# Altium footprint library FC_v2.0_PcbLib.PcbLib: 28 footprints (part 1 of 2)
Each footprint in its own frame and in the unit in brackets; x right, y up, seen from the top. Pads: shape width x height; smd on the part's side, far side on the other; paste and mask are expansions set on the pad; w line width, h text height; cw(c..) or ccw(c..) is an arc to the next point about the centre after c.
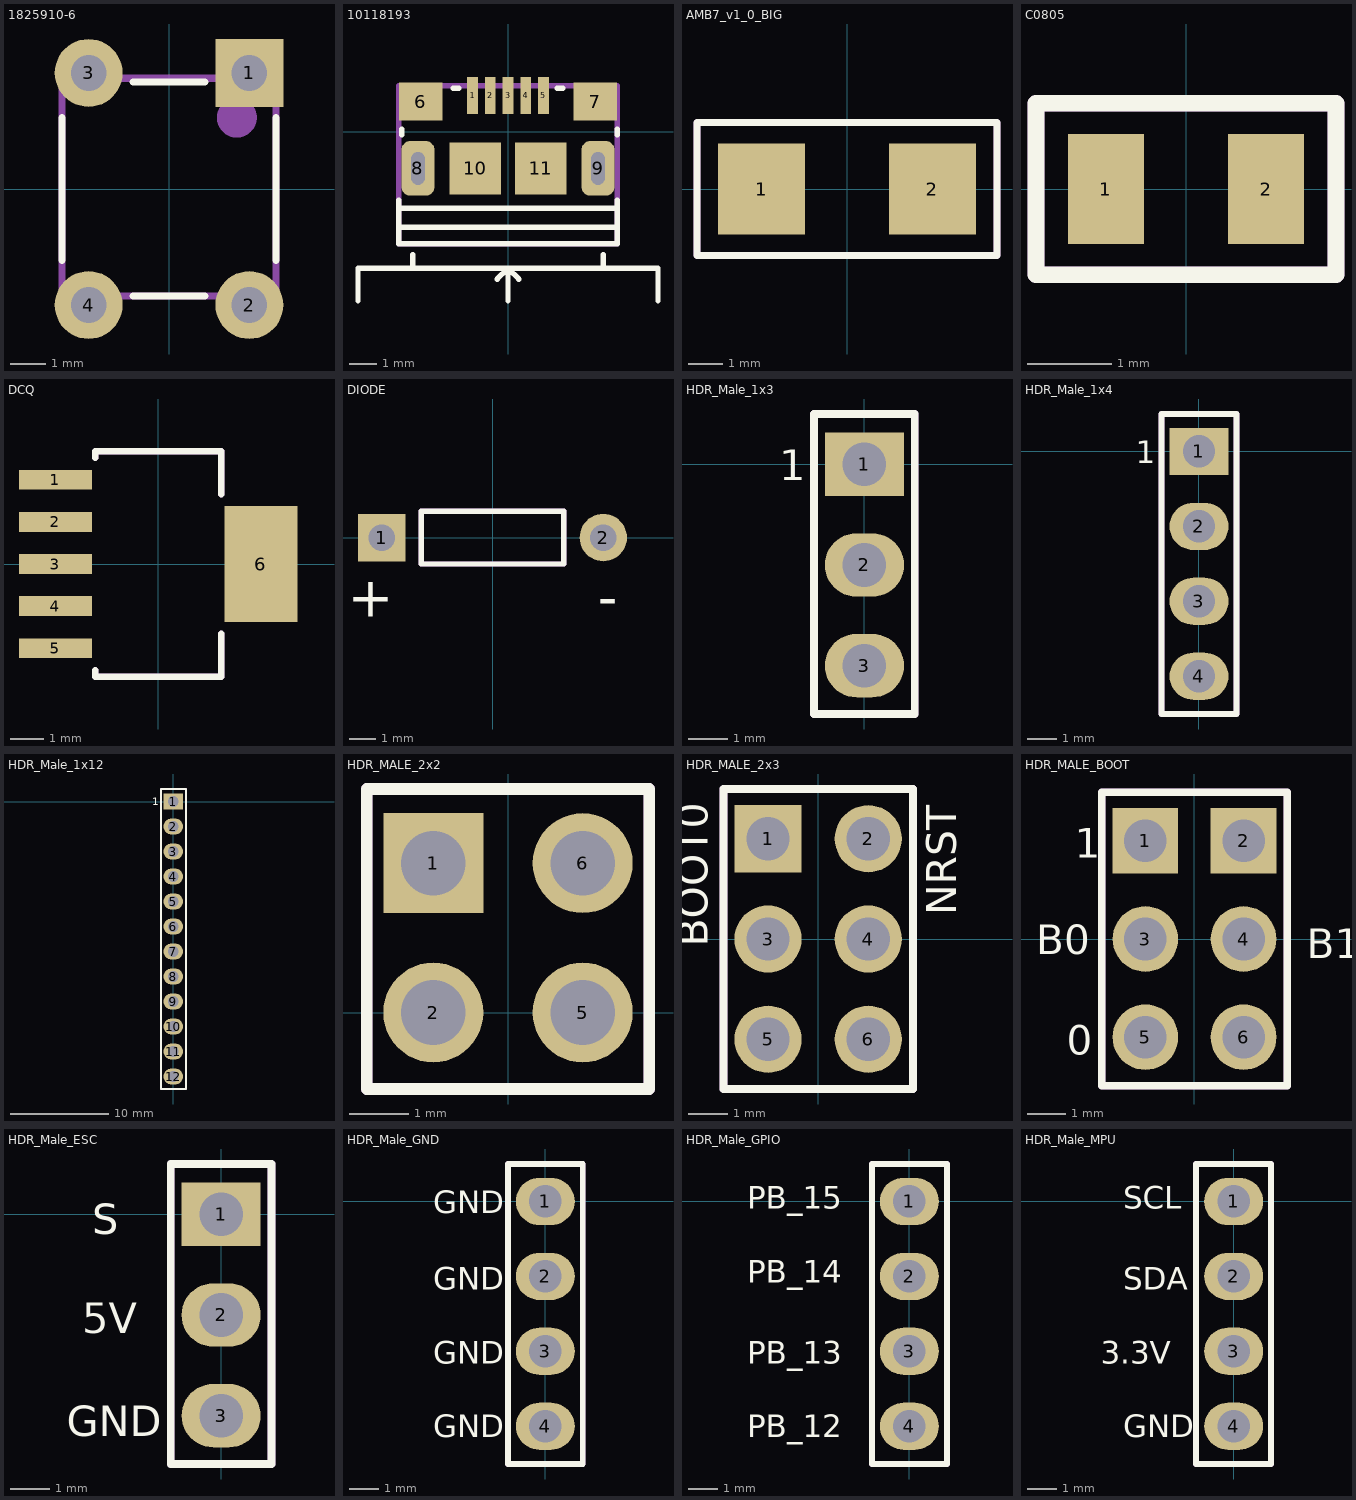
[diagram p0: the footprints below, top view; thin cyan lines are the x and y axes]

## 1825910-6 [mm]
pads (4):
  rect 1.9x1.9 hole 1: 1(2.25,3.25)
  round 1.9 hole 1: 2(2.25,-3.25) 3(-2.25,3.25) 4(-2.25,-3.25)
Top Overlay:
  lines w0.2: -3,-2 -3,0 -3,2 ; -1,-3 0,-3 1,-3 ; -1,3 0,3 1,3 ; 3,-2 3,0 3,2
Mechanical 1:
  circle w0.762: c1.9,2 r0.178
  lines w0.2: -3,-3 3,-3 3,3.1 -3,3.1 -3,-3
Mechanical 29:
  text "'.Designator'" at -1,-0.7 h1.52
3D body "FSM4JLH(1825910-5).STEP": height 5, standoff -3.51, extent -2.99,-3.899 3,3.899

## 10118193 [mm]
pads (11):
  rect 0.4x1.35 smd mask+0.05: 1(-1.3,1.338) 2(-0.65,1.338) 3(0,1.338) 4(0.65,1.338) 5(1.3,1.338)
  rect 1.6x1.4 smd: 6(-3.2,1.112) 7(3.2,1.112)
  rrect50% 1.2x2 hole 0.5 slot 1.2 at 90 deg: 8(-3.3,-1.338) 9(3.3,-1.338)
  rect 1.9x1.9 smd: 10(-1.2,-1.338) 11(1.2,-1.338)
Top Overlay:
  lines w0.2: -5.5,-6.2 -5.5,-5 5.5,-5 5.5,-6.2 ; -4,-3.5 4,-3.5 ; -4,-2.8 4,-2.8 ; -4,-2.5 -4,-4.1 4,-4.1 4,-2.5 ; -3.9,-0.1 -3.9,0.1 ; -3.5,-5 -3.5,-4.5 ; -2,1.6 -1.8,1.6 ; -0.4,-5.4 0,-5 ; 0,-6.2 0,-5 ; 0.4,-5.4 0,-5 ; 1.8,1.6 2,1.6 ; 3.5,-5 3.5,-4.5 ; 4,-0.1 4,0.1
Mechanical 29:
  lines w0.2: -4,-4.1 -4,1.7 4,1.7 4,-4.1 -4,-4.1
  text "'.Designator'" at -3.4,-1.8 h0.76
3D body "10118193-0001lfc.stp": height 2.81, standoff -0.79, extent -3.928,-4.063 3.928,1.598

## AMB7_v1_0_BIG [mm]
pads (2):
  rect 2.5x2.6 smd: 1(-2.45,0) 2(2.45,0)
Top Overlay:
  lines w0.2: -4.3,-1.9 4.3,-1.9 4.3,1.9 -4.3,1.9 -4.3,-1.9
Mechanical 29:
  lines w0.2: -4.3,-1.9 4.3,-1.9 4.3,1.9 -4.3,1.9 -4.3,-1.9
  text "'.Designator'" at 3.8,-0.4 h0.76
3D body "ABM7.STEP": height 1.41, standoff 0.01, extent -2.997,-1.753 2.997,1.753

## C0805 [mm]
pads (2):
  rect 0.9x1.3 smd: 1(-0.95,0) 2(0.95,0)
Top Overlay:
  lines w0.2: -1.778,-1.016 1.778,-1.016 1.778,1.016 -1.778,1.016 -1.778,-1.016
Mechanical 29:
  lines w0.2: -1.778,-1.016 -1.778,1.016 1.778,1.016 1.778,-1.016 -1.778,-1.016
  text "'.Designator'" at 0.762,-0.508 h0.76
3D body "User Library-Chip Capacitor2CAPC2012X95N.STEP": height 0.81, standoff 0.01, extent -0.8,-0.432 0.8,0.428

## DCQ [mm]
pads (6):
  rect 2.2x0.6 smd: 1(-3.1,2.54) 2(-3.1,1.27) 3(-3.1,0) 4(-3.1,-1.27) 5(-3.1,-2.54)
  rect 2.2x3.5 smd: 6(3.1,0)
Top Overlay:
  lines w0.2: -1.9,-3.2 -1.9,-3.4 1.9,-3.4 1.9,-2.1 ; -1.9,3.2 -1.9,3.4 1.9,3.4 1.9,2.1
Mechanical 29:
  lines w0.2: -1.9,-3.2 -1.9,-3.4 1.9,-3.4 1.9,-2.1 ; -1.9,3.2 -1.9,3.4 1.9,3.4 1.9,2.1
  text "'.Designator'" at -1.1,0.3 h0.76
3D body "TPS73701DCQ.STEP": height 1.71, standoff -0.09, extent -3.63,-3.275 3.63,3.275

## DIODE [mm]
pads (2):
  rect 1.8x1.8 hole 1: 1(-4.2,0)
  round 1.8 hole 1: 2(4.2,0)
Top Overlay:
  lines w0.2: -2.7,-1 -2.7,1 0,1 2.7,1 2.7,-1 0,-1 -2.7,-1
  text "-" at 4.75,-3 h1.52
  text "+" at -3.75,-3 h1.52
Mechanical 29:
  lines w0.2: -2.7,-1 -2.7,1 2.7,1 2.7,-1 -2.7,-1
  text "'.Designator'" at -0.6,-0.3 h0.76

## HDR_Male_1x3 [mm]
pads (3):
  rect 2x1.6 hole 1.1: 1(0,0)
  oval 2x1.6 hole 1.1: 2(0,-2.54) 3(0,-5.08)
Top Overlay:
  lines w0.2: -1.27,-6.3 -1.27,1.27 1.27,1.27 1.27,-6.3 -1.27,-6.3
  text "1" at -2.15,-0.4 h0.76
Mechanical 29:
  lines w0.2: -1.27,-6.3 -1.27,1.27 1.27,1.27 1.27,-6.3 -1.27,-6.3
  text "'.Designator'" at 0.3,-3.5 h0.76
3D body "Header_Male_RA_Low_1Pin.STEP": height 4.14, standoff -5.99, extent -1.257,-1.24 4.257,1.3
3D body "Header_Male_RA_Low_1Pin.STEP": height 4.14, standoff -5.99, extent -1.215,-6.37 4.3,-3.83
3D body "Header_Male_RA_Low_1Pin.STEP": height 4.14, standoff -5.99, extent -1.215,-3.77 4.3,-1.23

## HDR_Male_1x4 [mm]
pads (4):
  rect 2x1.6 hole 1.1: 1(0,0)
  oval 2x1.6 hole 1.1: 2(0,-2.54) 3(0,-5.08) 4(0,-7.62)
Top Overlay:
  lines w0.2: -1.27,-8.9 -1.27,1.27 1.27,1.27 1.27,-8.9 -1.27,-8.9
  text "1" at -2.15,-0.4 h0.76
Mechanical 29:
  lines w0.2: -1.27,-8.9 -1.27,1.27 1.27,1.27 1.27,-8.9 -1.27,-8.9
  text "'.Designator'" at 0.3,-4.2 h0.76
3D body "Header_Male_RA_Low_1Pin.STEP": height 4.14, standoff -5.99, extent -1.215,-1.27 4.3,1.27
3D body "Header_Male_RA_Low_1Pin.STEP": height 4.14, standoff -5.99, extent -1.257,-8.94 4.257,-6.4
3D body "Header_Male_RA_Low_1Pin.STEP": height 4.14, standoff -5.99, extent -1.215,-3.77 4.3,-1.23
3D body "Header_Male_RA_Low_1Pin.STEP": height 4.14, standoff -5.99, extent -1.215,-6.37 4.3,-3.83

## HDR_Male_1x12 [mm]
pads (12):
  rect 2x1.6 hole 1.1: 1(0,0)
  oval 2x1.6 hole 1.1: 2(0,-2.54) 3(0,-5.08) 4(0,-7.62) 5(0,-10.16) 6(0,-12.7) 7(0,-15.24) 8(0,-17.78) 9(0,-20.32) 10(0,-22.86) 11(0,-25.4) 12(0,-27.94)
Top Overlay:
  lines w0.2: -1.27,-29.21 1.27,-29.21 1.27,1.27 -1.27,1.27 -1.27,-29.21
  text "1" at -2.15,-0.4 h0.76
Mechanical 29:
  lines w0.2: -1.27,-29.21 1.27,-29.21 1.27,1.27 -1.27,1.27 -1.27,-29.21
  text "'.Designator'" at 0.254,-17.78 h0.76
3D body "HDR_1x4_White.stp": height 5.47, standoff -6.03, extent -1.2,-8.705 1.21,1.055
3D body "HDR_1x4_White.stp": height 5.47, standoff -6.03, extent -1.2,-18.905 1.21,-9.145
3D body "HDR_1x4_White.stp": height 5.47, standoff -6.03, extent -1.205,-29.064 1.205,-19.304

## HDR_MALE_2x2 [mm]
pads (4):
  rect 1.7x1.7 hole 1.1: 1(-1.27,2.54)
  round 1.7 hole 1.1: 2(-1.27,0) 5(1.27,0) 6(1.27,2.54)
Top Overlay:
  lines w0.2: -2.4,-1.3 -2.4,3.8 2.4,3.8 2.4,-1.3 -2.4,-1.3
Mechanical 29:
  circle w0.5: c-1.6,2.9 r0.224
  lines w0.2: -2.4,-1.3 -2.4,3.8 2.4,3.8 2.4,-1.3 -2.4,-1.3
  text "'.Designator'" at 0.6,1.5 h1.52
3D body "Header_Male_1Pin.STEP": height 8.54, standoff -3, extent 0,1.3 2.54,3.79
3D body "Header_Male_1Pin.STEP": height 8.54, standoff -3, extent 0.03,-1.245 2.57,1.245
3D body "Header_Male_1Pin.STEP": height 8.54, standoff -3, extent -2.57,1.31 -0.03,3.8
3D body "Header_Male_1Pin.STEP": height 8.54, standoff -3, extent -2.5,-1.245 0.04,1.245

## HDR_MALE_2x3 [mm]
pads (6):
  rect 1.7x1.7 hole 1.1: 1(-1.27,2.54)
  round 1.7 hole 1.1: 2(1.27,2.54) 3(-1.27,0) 4(1.27,0) 5(-1.27,-2.54) 6(1.27,-2.54)
Top Overlay:
  lines w0.2: -2.4,-3.8 -2.4,3.8 2.4,3.8 2.4,-3.8 -2.4,-3.8
  text "NRST" at 3.5,0.6 h0.76
  text "BOOT0" at -2.8,-0.2 h0.76
Mechanical 29:
  circle w0.5: c-1.6,2.9 r0.224
  lines w0.2: -2.4,-3.8 -2.4,3.8 2.4,3.8 2.4,-3.8 -2.4,-3.8
  text "'.Designator'" at 0.6,1.5 h1.52
3D body "Header_Male_1Pin.STEP": height 8.54, standoff -3, extent 0,1.3 2.54,3.79
3D body "Header_Male_1Pin.STEP": height 8.54, standoff -3, extent 0.03,-1.245 2.57,1.245
3D body "Header_Male_1Pin.STEP": height 8.54, standoff -3, extent -2.57,1.31 -0.03,3.8
3D body "Header_Male_1Pin.STEP": height 8.54, standoff -3, extent -2.5,-1.245 0.04,1.245
3D body "Header_Male_1Pin.STEP": height 8.54, standoff -3, extent -2.47,-3.745 0.07,-1.255
3D body "Header_Male_1Pin.STEP": height 8.54, standoff -3, extent 0.03,-3.745 2.57,-1.255

## HDR_MALE_BOOT [mm]
pads (6):
  rect 1.7x1.7 hole 1.1: 1(-1.27,2.54) 2(1.27,2.54)
  round 1.7 hole 1.1: 3(-1.27,0) 4(1.27,0) 5(-1.27,-2.54) 6(1.27,-2.54)
Top Overlay:
  lines w0.2: -2.4,-3.8 -2.4,3.8 2.4,3.8 2.4,-3.8 -2.4,-3.8
  text "0" at -3.3,-3 h0.76
  text "1" at -3.1,2.1 h0.76
  text "B1" at 2.9,-0.5 h0.76
  text "B0" at -4.1,-0.4 h0.76
Mechanical 29:
  circle w0.5: c-1.6,2.9 r0.224
  lines w0.2: -2.4,-3.8 -2.4,3.8 2.4,3.8 2.4,-3.8 -2.4,-3.8
  text "'.Designator'" at 0.6,1.5 h1.52
3D body "Header_Male_1Pin.STEP": height 8.54, standoff -3, extent 0,1.3 2.54,3.79
3D body "Header_Male_1Pin.STEP": height 8.54, standoff -3, extent 0.03,-1.245 2.57,1.245
3D body "Header_Male_1Pin.STEP": height 8.54, standoff -3, extent -2.57,1.31 -0.03,3.8
3D body "Header_Male_1Pin.STEP": height 8.54, standoff -3, extent -2.5,-1.245 0.04,1.245
3D body "Header_Male_1Pin.STEP": height 8.54, standoff -3, extent -2.47,-3.745 0.07,-1.255
3D body "Header_Male_1Pin.STEP": height 8.54, standoff -3, extent 0.03,-3.745 2.57,-1.255

## HDR_Male_ESC [mm]
pads (3):
  rect 2x1.6 hole 1.1: 1(0,0)
  oval 2x1.6 hole 1.1: 2(0,-2.54) 3(0,-5.08)
Top Overlay:
  lines w0.2: -1.27,-6.3 -1.27,1.27 1.27,1.27 1.27,-6.3 -1.27,-6.3
  text "S" at -3.25,-0.5 h0.76
  text "5V" at -3.5,-3 h0.76
  text "GND" at -3.9,-5.6 h0.76
Mechanical 29:
  lines w0.2: -1.27,-6.3 -1.27,1.27 1.27,1.27 1.27,-6.3 -1.27,-6.3
  text "'.Designator'" at 0.3,-3.5 h0.76
3D body "Header_Male_RA_Low_1Pin.STEP": height 4.14, standoff -5.99, extent -1.257,-1.24 4.257,1.3
3D body "Header_Male_RA_Low_1Pin.STEP": height 4.14, standoff -5.99, extent -1.215,-6.37 4.3,-3.83
3D body "Header_Male_RA_Low_1Pin.STEP": height 4.14, standoff -5.99, extent -1.215,-3.77 4.3,-1.23

## HDR_Male_GND [mm]
pads (4):
  oval 2x1.6 hole 1.1: 1(0,0) 2(0,-2.54) 3(0,-5.08) 4(0,-7.62)
Top Overlay:
  lines w0.2: -1.27,-8.9 -1.27,1.27 1.27,1.27 1.27,-8.9 -1.27,-8.9
  text "GND" at -3.8,-0.4 h0.76
  text "GND" at -3.8,-3 h0.76
  text "GND" at -3.8,-5.5 h0.76
  text "GND" at -3.8,-8 h0.76
Mechanical 29:
  lines w0.2: -1.27,-8.9 -1.27,1.27 1.27,1.27 1.27,-8.9 -1.27,-8.9
  text "'.Designator'" at 0.3,-4.2 h0.76
3D body "Header_Male_RA_Low_1Pin.STEP": height 4.14, standoff -5.99, extent -1.215,-1.27 4.3,1.27
3D body "Header_Male_RA_Low_1Pin.STEP": height 4.14, standoff -5.99, extent -1.257,-8.94 4.257,-6.4
3D body "Header_Male_RA_Low_1Pin.STEP": height 4.14, standoff -5.99, extent -1.215,-3.77 4.3,-1.23
3D body "Header_Male_RA_Low_1Pin.STEP": height 4.14, standoff -5.99, extent -1.215,-6.37 4.3,-3.83

## HDR_Male_GPIO [mm]
pads (4):
  oval 2x1.6 hole 1.1: 1(0,0) 2(0,-2.54) 3(0,-5.08) 4(0,-7.62)
Top Overlay:
  lines w0.2: -1.27,-8.9 1.27,-8.9 1.27,1.27 -1.27,1.27 -1.27,-8.9
  text "PB_12" at -5.5,-8 h0.76
  text "PB_13" at -5.5,-5.5 h0.76
  text "PB_14" at -5.5,-2.75 h0.76
  text "PB_15" at -5.5,-0.25 h0.76
Mechanical 29:
  lines w0.2: -1.27,-8.9 1.27,-8.9 1.27,1.27 -1.27,1.27 -1.27,-8.9
  text "'.Designator'" at 0.3,-4.2 h0.76
3D body "Header_Male_RA_Low_1Pin.STEP": height 4.14, standoff -5.99, extent -1.215,-6.37 4.3,-3.83
3D body "Header_Male_RA_Low_1Pin.STEP": height 4.14, standoff -5.99, extent -1.215,-3.77 4.3,-1.23
3D body "Header_Male_RA_Low_1Pin.STEP": height 4.14, standoff -5.99, extent -1.257,-8.94 4.257,-6.4
3D body "Header_Male_RA_Low_1Pin.STEP": height 4.14, standoff -5.99, extent -1.215,-1.27 4.3,1.27

## HDR_Male_MPU [mm]
pads (4):
  oval 2x1.6 hole 1.1: 1(0,0) 2(0,-2.54) 3(0,-5.08) 4(0,-7.62)
Top Overlay:
  lines w0.2: -1.27,-8.9 -1.27,1.27 1.27,1.27 1.27,-8.9 -1.27,-8.9
  text "GND" at -3.75,-8 h0.76
  text "3.3V" at -4.5,-5.5 h0.76
  text "SDA" at -3.75,-3 h0.76
  text "SCL" at -3.75,-0.25 h0.76
Mechanical 29:
  lines w0.2: -1.27,-8.9 -1.27,1.27 1.27,1.27 1.27,-8.9 -1.27,-8.9
  text "'.Designator'" at 0.3,-4.2 h0.76
3D body "Header_Male_RA_Low_1Pin.STEP": height 4.14, standoff -5.99, extent -1.215,-1.27 4.3,1.27
3D body "Header_Male_RA_Low_1Pin.STEP": height 4.14, standoff -5.99, extent -1.257,-8.94 4.257,-6.4
3D body "Header_Male_RA_Low_1Pin.STEP": height 4.14, standoff -5.99, extent -1.215,-3.77 4.3,-1.23
3D body "Header_Male_RA_Low_1Pin.STEP": height 4.14, standoff -5.99, extent -1.215,-6.37 4.3,-3.83